# EAGLE library part BLUE_PILL (library BlackPill)
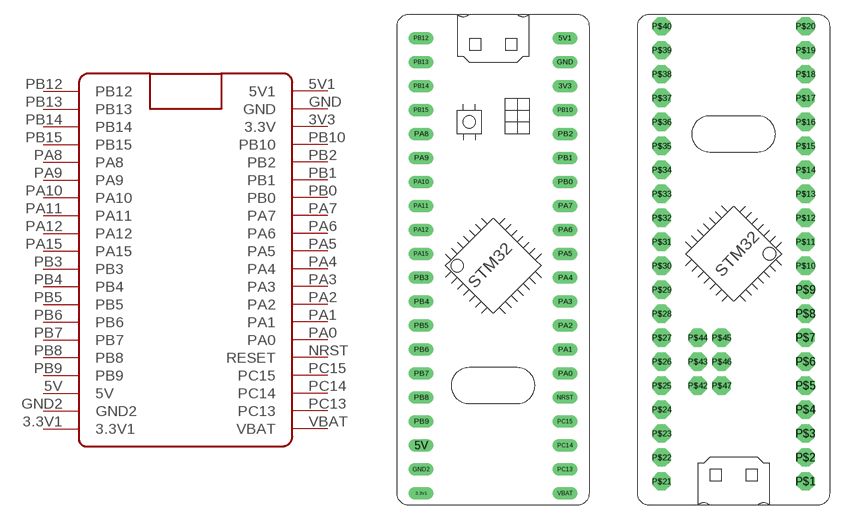
[diagram p0: symbol with the pads of BLUE_PILL; footprints BLUE_PILL, BLUE_PILL_ADV]

Designator prefix -

## BLUE_PILL  [BLUE_PILL]
3.3V1  3.3V1
3V3  3.3V
5V  5V
5V1  5V1  pwr
GND  GND
GND2  GND2
NRST  RESET
PA0  PA0
PA1  PA1
PA2  PA2
PA3  PA3
PA4  PA4
PA5  PA5
PA6  PA6
PA7  PA7
PA8  PA8
PA9  PA9
PA10  PA10
PA11  PA11
PA12  PA12
PA15  PA15
PB0  PB0
PB1  PB1
PB2  PB2
PB3  PB3
PB4  PB4
PB5  PB5
PB6  PB6
PB7  PB7
PB8  PB8
PB9  PB9
PB10  PB10
PB12  PB12
PB13  PB13
PB14  PB14
PB15  PB15
PC13  PC13
PC14  PC14
PC15  PC15
VBAT  VBAT

## BLUE_PILLADVANCED  [BLUE_PILL_ADV]
P$1  PB12
P$2  PB13
P$3  PB14
P$4  PB15
P$5  PA8
P$6  PA9
P$7  PA10
P$8  PA11
P$9  PA12
P$10  PA15
P$11  PB3
P$12  PB4
P$13  PB5
P$14  PB6
P$15  PB7
P$16  PB8
P$17  PB9
P$18  5V
P$19  GND2
P$20  3.3V1
P$21  5V1  pwr
P$22  GND
P$23  3.3V
P$24  RESET
P$25  PB10
P$26  PB2
P$27  PB1
P$28  PB0
P$29  PA7
P$30  PA6
P$31  PA5
P$32  PA4
P$33  PA3
P$34  PA2
P$35  PA1
P$36  PA0
P$37  PC15
P$38  PC14
P$39  PC13
P$40  VBAT

## Footprint BLUE_PILL (pad centres in mm)
drill 0.8 long: 3.3V1 -7.62,-33.02; 3V3 7.62,10.16; 5V -7.62,-27.94; 5V1 7.62,15.24; GND 7.62,12.7; GND2 -7.62,-30.48; NRST 7.62,-22.86; PA0 7.62,-20.32; PA1 7.62,-17.78; PA2 7.62,-15.24; PA3 7.62,-12.7; PA4 7.62,-10.16; PA5 7.62,-7.62; PA6 7.62,-5.08; PA7 7.62,-2.54; PA8 -7.62,5.08; PA9 -7.62,2.54; PA10 -7.62,0; PA11 -7.62,-2.54; PA12 -7.62,-5.08; PA15 -7.62,-7.62; PB0 7.62,0; PB1 7.62,2.54; PB2 7.62,5.08; PB3 -7.62,-10.16; PB4 -7.62,-12.7; PB5 -7.62,-15.24; PB6 -7.62,-17.78; PB7 -7.62,-20.32; PB8 -7.62,-22.86; PB9 -7.62,-25.4; PB10 7.62,7.62; PB12 -7.62,15.24; PB13 -7.62,12.7; PB14 -7.62,10.16; PB15 -7.62,7.62; PC13 7.62,-30.48; PC14 7.62,-27.94; PC15 7.62,-25.4; VBAT 7.62,-33.02

## Footprint BLUE_PILL_ADV (pad centres in mm)
drill 0.8 pad 1.93 octagon: P$1 10.16,-30.48; P$2 10.16,-27.94; P$3 10.16,-25.4; P$4 10.16,-22.86; P$5 10.16,-20.32; P$6 10.16,-17.78; P$7 10.16,-15.24; P$8 10.16,-12.7; P$9 10.16,-10.16; P$10 10.16,-7.62; P$11 10.16,-5.08; P$12 10.16,-2.54; P$13 10.16,0; P$14 10.16,2.54; P$15 10.16,5.08; P$16 10.16,7.62; P$17 10.16,10.16; P$18 10.16,12.7; P$19 10.16,15.24; P$20 10.16,17.78; P$21 -5.08,-30.48; P$22 -5.08,-27.94; P$23 -5.08,-25.4; P$24 -5.08,-22.86; P$25 -5.08,-20.32; P$26 -5.08,-17.78; P$27 -5.08,-15.24; P$28 -5.08,-12.7; P$29 -5.08,-10.16; P$30 -5.08,-7.62; P$31 -5.08,-5.08; P$32 -5.08,-2.54; P$33 -5.08,0; P$34 -5.08,2.54; P$35 -5.08,5.08; P$36 -5.08,7.62; P$37 -5.08,10.16; P$38 -5.08,12.7; P$39 -5.08,15.24; P$40 -5.08,17.78
drill 1.1 pad 1.93 octagon: P$42 -1.27,-20.32; P$43 -1.27,-17.78; P$44 -1.27,-15.24; P$45 1.27,-15.24; P$46 1.27,-17.78; P$47 1.27,-20.32